# Altium schematic symbol library U_DS2431.Schlib: 1 symbol
Pins are listed as number, name and electrical type; pins without a type are passive.

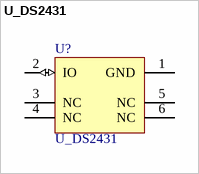
[diagram p0: symbol U_DS2431]

## U_DS2431
designator U?
1Kb 1-Wire EEPROM, 6-pin TSOC, -40° to + 85° C, Pb-Free
pins: 1 GND (power), 2 IO (io), 3 NC, 4 NC, 5 NC, 6 NC